# Altium footprint library ANTC3016X55N.PcbLib: 1 footprints
Each footprint in its own frame and in the unit in brackets; x right, y up, seen from the top. Pads: shape width x height; smd on the part's side, far side on the other; paste and mask are expansions set on the pad; w line width, h text height; cw(c..) or ccw(c..) is an arc to the next point about the centre after c.
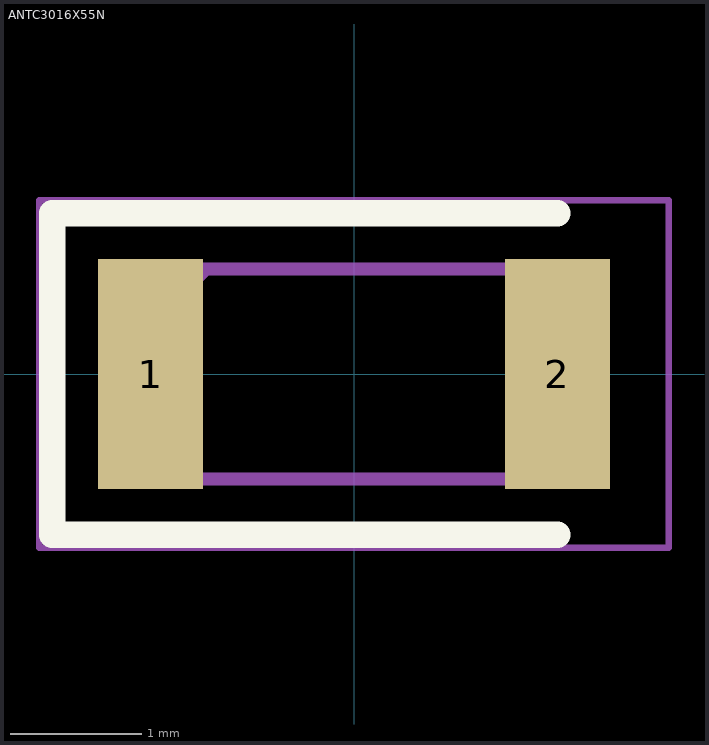
[diagram p0: the footprint, top view; thin cyan lines are the x and y axes]

## ANTC3016X55N [mm]
pads (2):
  rect 0.8x1.75 smd: 1(-1.55,0) 2(1.55,0)
Top Overlay:
  lines w0.2: 1.55,-1.225 -2.3,-1.225 -2.3,1.225 1.55,1.225
Mechanical 15:
  lines w0.1: -1.525,0.4 -1.125,0.8 ; -1.525,-0.8 1.525,-0.8 1.525,0.8 -1.525,0.8 -1.525,-0.8
Mechanical 20:
  lines w0.05: -2.4,-1.325 2.4,-1.325 2.4,1.325 -2.4,1.325 -2.4,-1.325